# Altium schematic symbol library RDM_ALT_SCH.SchLib: 173 symbols (part 2 of 3)
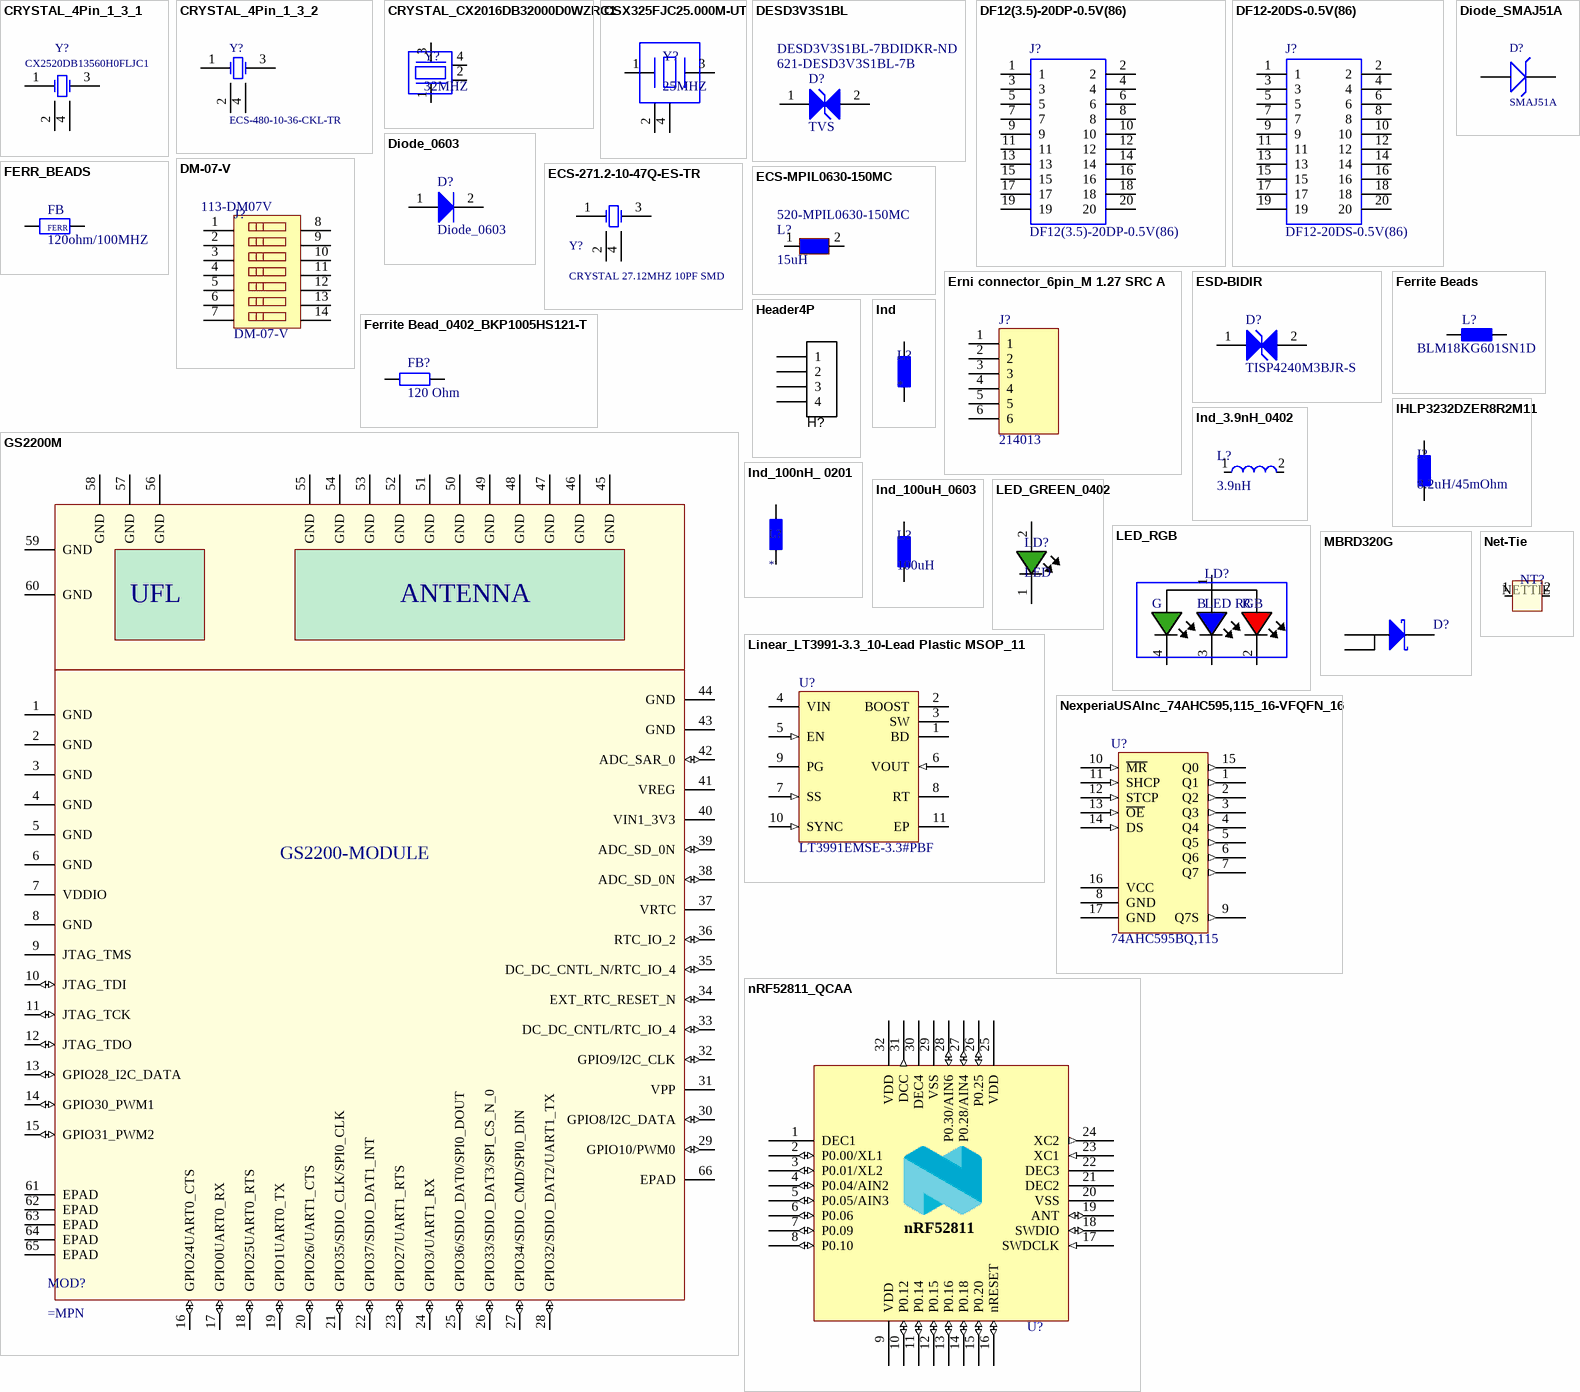
[diagram p6: symbols CRYSTAL_4Pin_1_3_1 to nRF52811_QCAA]

## DF12(3.5)-20DP-0.5V(86)
designator J?
Connector,Board to Board,DF12 Hirose DF12 Series, 0.5mm Pitch 20 Way 2 Row Straight PCB Header, Solder Termination, 0.3A; Allied_Number: R1051072; Manufacturer_Name: Hirose; Manufacturer_Part_Number: DF12(3.5)-20DP-0.5V(86); RS Part Number: 6082064P; RS Price/Stock: http://uk.rs-online.com/web/p/products/6082064P; Allied Price/Stock: http://www.alliedelec.com/hirose-electric-df12-3-5-20dp-0-5v-86-/R1051072/; Mouser Part Number: 798-DF123520DP0.5V86; Mouser Price/Stock: https://www.mouser.com/Search/Refine.aspx?Keyword=798-DF123520DP0.5V86; Datasheet Link: https://www.hirose.com/product/en/download_file/key_name/DF12/category/Catalog/doc_file_id/31693/?file_category_id=4&item_id=23&is_series=1.pdf; Supplier 1: Digi-Key; Supplier 1 Part Number 1: H5230TR-ND
footprint DF12(4.0)-20DP
pins: 1, 2, 3, 4, 5, 6, 7, 8, 9, 10, 11, 12, 13, 14, 15, 16, 17, 18, 19, 20

## DF12-20DS-0.5V(86)
designator J?
Connector,Board to Board,DF12 Hirose DF12 Series 0.5mm 20 Way 2 Row Straight PCB Socket Surface Mount Board to Board; Allied_Number: R1051087; Manufacturer_Name: Hirose; Manufacturer_Part_Number: DF12-20DS-0.5V(86); RS Part Number: 1722478; RS Price/Stock: http://uk.rs-online.com/web/p/products/1722478; Allied Price/Stock: http://www.alliedelec.com/hirose-electric-df12-20ds-0-5v-86-/R1051087/; Mouser Part Number: 798-DF12-20DS-0.5V86; Mouser Price/Stock: https://www.mouser.com/Search/Refine.aspx?Keyword=798-DF12-20DS-0.5V86; Datasheet Link: https://www.hirose.com/product/en/products/DF12; Supplier 1: Digi_Key; Supplier Part Number 1: H5214TR-ND
footprint DF12-20DS
pins: 1, 2, 3, 4, 5, 6, 7, 8, 9, 10, 11, 12, 13, 14, 15, 16, 17, 18, 19, 20

## Diode_0603
designator D?
Diodes - General Purpose, Power, Switching IO=150mA VR=75V HIGH SPEED; Manufacturer: Bourns; Manufacturer PartNr: CD0603-S01575; Replaceable: yes; ComponentLink1Description: mouser; ComponentLink1URL: https://www.mouser.ch/ProductDetail/Diodes-Incorporated/DESD3V3S1BL-7B?qs=%2fha2pyFaduhA707awRoRgtNXj1BWecNQPXz8CtVYm9O48rqwfwJI0g%3d%3d; Footprint/Package: 0603; Supplier 1: Newark; Supplier Part Number 1: 09J8031
footprint Diode 0603
pins: 1 A, 2 K

## Diode_SMAJ51A
designator D?, comment SMAJ51A
SMAJ Transient Voltage Suppressor Diode Series; Manufacturer: Bourns; Manufacturer PartNr: SMAJ51A; ShortDescription: SMAJ51A
footprint LITTELFUSE_DO-214AC(SMA)_R
footprint Bourns_DO-214AC (SMA) small_2_R
pins: 1 K, 2 A

## DM-07-V
designator J?  Supplier Part Number 1: 113-DM07V  (net tie)
DIP Switches/SIP Switches Dip switch SMD type 7 Positions; Replaceable: no; Footprint/Package: 1.27mm; Supplier 1: Mouser; ComponentLink1Description: mouser; ComponentLink1URL: https://www.mouser.ch/ProductDetail/Diptronics/DM-07-V?qs=sGAEpiMZZMv%2f%252b2JhlA6ysNO310kSljHRbctHIUEDhZo%3d
footprint DM-07-V (DIP Switch 7 Position)
pins: 1, 2, 3, 4, 5, 6, 7, 8 1, 9 2, 10 3, 11 4, 12 5, 13 6, 14 7

## ECS-271.2-10-47Q-ES-TR
designator Y?, comment CRYSTAL 27.12MHZ 10PF SMD
Manufacturer Part Number: ECS-271.2-10-47Q-ES-TR
footprint ECS_1247Q SMD (1.6*1.3mm Footprint)
pins: 1 OSC1, 2 OSC2, 3 OSC2, 4 OSC3

## ECS-MPIL0630-150MC
designator L?, comment 15uH  Supplier Part Number 1: 520-MPIL0630-150MC
Fixed Inductors 15uH +/-20% 3A Iron Core Shielded, R=95 mOhms, Height = 3 mm.; Manufacturer: ECS; Manufacturer PartNr: ECS-MPIL0630-150MC; Replaceable: yes; ComponentLink1Description: mouser; ComponentLink1URL: https://www.mouser.ch/ProductDetail/ECS/ECS-MPIL0630-150MC?qs=sGAEpiMZZMsg%252by3WlYCkUy0Se8nYOmwuVn58KWjVF3E%3d; value: 15uH; Footprint/Package: specific, see datasheet; Supplier 1: Mouser; Current: 3A
footprint ECS-MPIL0630-150MC (Fixed Inductors 15uH +/-20% 5A Iron Core Shielded)
pins: 1, 2

## Erni connector_6pin_M 1.27 SRC A
designator J?, comment 214013
M 1.27 SRC A. 6-pin BA1; Manufacturer: ERNI; Manufacturer PartNr: 214013; ShortDescription: 214013
footprint ERNI_214013_6_R
footprint ERNI_214013 Randmontage_6_R
pins: 1, 2, 3, 4, 5, 6

## ESD-BIDIR
designator D?, comment TISP4240M3BJR-S
BIDIRECTIONAL THYRISTOR OVERVOLTAGE PROTECTORS; Manufacturer: Bourns; Manufacturer PartNr: TISP4240M3BJR-S; ShortDescription: TISP4240M3BJR-S
footprint Bourns_SMB (DO-214AA)_2_R
pins: 1 A, 2 K

## FERR_BEADS
designator FB, comment 120ohm/100MHZ
EMI Filter Beads, Chips & Arrays HI CUR LW RDC 0402 120OHMS 25%; Manufacturer: Taiyo Yuden; Manufacturer Part Number: BKP1005HM121-T; Core Material: Ferrite; Impedance: 120R; Max Current Rating: 1.1A; Number of Lines: 1; DC Resistance (DCR): 120mR; Test Frequency: 100MHz; Supplier 1: Digi-Key; Supplier Part Number 1: 587-2089-6-ND; Stock 1: 0; Mount: Surface Mount; Case/Package: 0402; Case Code (Metric): 1005; Case Code (Imperial): 0402; Min Operating Temperature: -55°C; Max Operating Temperature: 85°C; Packaging: Tape and Reel; Tolerance: 25%; Package Quantity: 1; Max DC Current: 1.1A; Termination: SMD/SMT; Self Resonant Frequency: 100MHz; Length: 1mm; Height: 0.5mm; Width: 0.02inch; Depth: 0.5mm; Halogen Free: Halogen Free; ComponentLink1URL: http://www.yuden.co.jp/productdata/catalog/en/mlci08_e.pdf; ComponentLink1Description: http://www.yuden.co.jp/productdata/catalog/en/mlci08_e.pdf; ComponentLink2URL: http://documents.rs-components.com/techlib://itc_doclist_GB.htm?stockno=7555617; ComponentLink2Description: http://documents.rs-components.com/techlib://itc_doclist_GB.htm?stockno=7555617; ComponentLink3URL: http://ds.yuden.co.jp/TYCOMPAS/ut/detail.do?productNo=BKP1005HM121-T&fileName=BKP1005HM121-T_SS&mode=specSheetDownload; ComponentLink3Description: http://ds.yuden.co.jp/TYCOMPAS/ut/detail.do?productNo=BKP1005HM121-T&fileName=BKP1005HM121-T_SS&mode=specSheetDownload
pins: 2, 2
text: FERR

## Ferrite Bead_0402_BKP1005HS121-T
designator FB?, comment 120 Ohm
FERRITE BEAD 120 OHM 0402; Manufacturer: Taiyo Yuden; Manufacturer Part Number: BKP1005HS121-T; Current Rating: 1A; Shielding: Unshielded; Impedance: 120R; Tolerance: 25%; Number of Lines: 1; DC Resistance (DCR): 140mR; Test Frequency: 100MHz; Supplier 1: Mouser; Supplier Part Number 1: 963-BKP1005HS121-T; Stock 1: 346003; Pricing 1: 1=0.1, 10=0.033, 50=0.033, 100=0.021, 1000=0.015, 10000=0.009 (USD); Mount: Surface Mount; Case/Package: 0402; Number of Pins: 2; Core Material: Ferrite; Case Code (Metric): 1005; Case Code (Imperial): 0402; Min Operating Temperature: -55°C; Max Operating Temperature: 85°C; Packaging: Tape and Reel; Package Quantity: 1; Max Current Rating: 1A; Max DC Current: 1A; Termination: SMD/SMT; Length: 0.039inch; Height: 0.5mm; Width: 0.02inch; Depth: 0.5mm; Lead Free: Lead Free; Halogen Free: Halogen Free; REACH SVHC: Unknown; ComponentLink1URL: http://www.farnell.com/datasheets/1929896.pdf; ComponentLink1Description: http://www.farnell.com/datasheets/1929896.pdf; ComponentLink2URL: http://www.onlinecomponents.com/productFiles/mf-TAI/mlci08_e.pdf; ComponentLink2Description: http://www.onlinecomponents.com/productFiles/mf-TAI/mlci08_e.pdf; ComponentLink3URL: http://ds.yuden.co.jp/TYCOMPAS/ut/detail.do?productNo=BKP1005HS121-T&fileName=BKP1005HS121-T_SS&mode=specSheetDownload; ComponentLink3Description: http://ds.yuden.co.jp/TYCOMPAS/ut/detail.do?productNo=BKP1005HS121-T&fileName=BKP1005HS121-T_SS&mode=specSheetDownload
footprint CAPC1005X55N
pins: 1, 2

## Ferrite Beads
designator L?, comment BLM18KG601SN1D
Chip Ferrite Bead; Manufacturer: Murata; Manufacturer PartNr: BLM18KG601SN1D; ShortDescription: BLM18KG601SN1D
footprint CAP-0603[1608] - RFL (SMD Chip 0603 - CAP - RFL)
footprint CAP-0603[1608] (SMD Chip 0603 - CAP)
pins: 1, 2

## GS2200M
designator MOD?
Microccontroller
pins: 1 GND (power), 2 GND (power), 3 GND (power), 4 GND (power), 5 GND (power), 6 GND (power), 7 VDDIO (power), 8 GND (power), 9 JTAG_TMS, 10 JTAG_TDI (io), 11 JTAG_TCK (io), 12 JTAG_TDO (io), 13 GPIO28_I2C_DATA (io), 14 GPIO30_PWM1 (io), 15 GPIO31_PWM2 (io), 16 GPIO24UART0_CTS (io), 17 GPIO0UART0_RX (io), 18 GPIO25UART0_RTS (io), 19 GPIO1UART0_TX (io), 20 GPIO26/UART1_CTS (io), 21 GPIO35/SDIO_CLK/SPI0_CLK (io), 22 GPIO37/SDIO_DAT1_INT (io), 23 GPIO27/UART1_RTS (io), 24 GPIO3/UART1_RX (io), 25 GPIO36/SDIO_DAT0/SPI0_DOUT (io), 26 GPIO33/SDIO_DAT3/SPI_CS_N_0 (io), 27 GPIO34/SDIO_CMD/SPI0_DIN (io), 28 GPIO32/SDIO_DAT2/UART1_TX (io), 29 GPIO10/PWM0 (io), 30 GPIO8/I2C_DATA (io), 31 VPP (power), 32 GPIO9/I2C_CLK (io), 33 DC_DC_CNTL/RTC_IO_4 (io), 34 EXT_RTC_RESET_N (io), 35 DC_DC_CNTL_N/RTC_IO_4 (io), 36 RTC_IO_2 (io), 37 VRTC (power), 38 ADC_SD_0N (io), 39 ADC_SD_0N (io), 40 VIN1_3V3 (power), 41 VREG (power), 42 ADC_SAR_0 (io), 43 GND (power), 44 GND (power), 45 GND (power), 46 GND (power), 47 GND (power), 48 GND (power), 49 GND (power), 50 GND (power), 51 GND (power), 52 GND (power), 53 GND (power), 54 GND (power), 55 GND (power), 56 GND (power), 57 GND (power), 58 GND (power), 59 GND (power), 60 GND (power), 61 EPAD (power), 62 EPAD (power), 63 EPAD (power), 64 EPAD (power), 65 EPAD (power), 66 EPAD (power)
text: UFL; ANTENNA; GS2200-MODULE

## Header4P
designator H?, comment Programmer  (value not drawn)  (no BOM)
Header 4-pin
footprint HDR1X4_1.27MMP (Connector; Header; 4 Position, 0.050" pitch)
footprint HDR1X4_2.54MMP (Connector; Header; 4 Position 0.100" pitch)
footprint CONN_FLATFLEX_4C_1MMP_5MML
footprint CONN_FLATFLEX_4C_1MMP_3MML_TOP
footprint CONN_FLATFLEX_4C_1MMP_3MML_BOT
footprint Sift_2.54_2X2 (Stiftleiste SMD 2.54mm 2X8)
footprint FCI_76383
pins: 1, 2, 3, 4

## IHLP3232DZER8R2M11
designator I?, comment 8.2uH/45mOhm
FIXED IND 8.2UH 5.7A 45 MOHM SMD; Manufacturer: Vishay Dale; Manufacturer Part Number: IHLP3232DZER8R2M11; Core Material: Ferrite; Saturation Current: 6.6A; Tolerance: 20%; Shielding: Shielded; Self Resonant Frequency: 12.6MHz; DC Resistance (DCR): 45mR; Test Frequency: 100kHz; Supplier 1: Digi-Key; Supplier Part Number 1: 541-1356-6-ND; Stock 1: 0; Mount: Surface Mount; Case/Package: 3232; Number of Pins: 2; Min Operating Temperature: -55°C; Max Operating Temperature: 125°C; Package Quantity: 500; Current Rating: 5.7A; Packaging: Tape and Reel; Inductance Tolerance: 20%; Inductance: 8.2uh; Max DC Current: 6.6A; Termination: SMD/SMT; Military Standard: Not; RMS Current (Irms): 5.7A; Length: 0.34inch; Height: 4mm; Width: 0.322inch; Height - Seated (Max): 0.157inch; Depth: 8.94mm; Radiation Hardening: No; REACH SVHC: Unknown; Lead Free: Lead Free; ComponentLink1URL: http://www.vishay.com/docs/34313/ihlp3232dz11.pdf; ComponentLink1Description: http://www.vishay.com/docs/34313/ihlp3232dz11.pdf; ComponentLink2URL: http://www.farnell.com/datasheets/1911055.pdf; ComponentLink2Description: http://www.farnell.com/datasheets/1911055.pdf
pins: 1, 2

## Ind
designator L?
Inductor; value: *; tolerance: *; power: *; Replaceable: *; Manufacturer: *; Manufacturer PartNr: *; Footprint/Package: *
footprint Inductor 0402 EIA
footprint Inductor 0603 EIA
footprint Inductor 0805 EIA
footprint Inductor 1206 EIA
pins: 1, 2

## Ind_3.9nH_0402
designator L?, comment 3.9nH
3.9nH Unshielded Multilayer Inductor 700mA 190mOhm Max 0402 (1005 Metric); Manufacturer: Murata; Manufacturer PartNr: LQG15HN3N9S02D; tolerance: ±0,3 nH; Replaceable: no; value: 3.9nH; power: *; Footprint/Package: 0402 (1005 metric); Supplier 1: Digi-Key; Supplier Part Number 1: 490-1079-1-ND
footprint Inductor high freq 0402 EIA
pins: 1, 2

## Ind_100nH_ 0201
designator L?
Manufacturer: TDK; Manufacturer Part Number: MLG0603PR10JT000; Core Material: Non-Magnetic; Tolerance: 5%; Current Rating: 80mA; Shielding: Unshielded; Inductance: 100nH; DC Resistance (DCR): 4.5R; Self Resonant Frequency: 900MHz; Test Frequency: 300MHz; Supplier 1: Digi-Key; Supplier Part Number 1: 445-7838-2-ND; Stock 1: 735000; Pricing 1: 15000=0.04368, 30000=0.04232, 75000=0.04095, 105000=0.03959 (USD); Mount: Surface Mount; Case/Package: 0201; Case Code (Metric): 0603; Case Code (Imperial): 0201; Min Operating Temperature: -55°C; Max Operating Temperature: 125°C; Package Quantity: 15000; Packaging: Cut Tape; Length: 0.024inch; Width: 0.012inch; Height - Seated (Max): 0.013inch; ComponentLink1URL: https://product.tdk.com/info/en/catalog/datasheets/inductor_commercial_high-frequency_mlg0603p_en.pdf?src-supplier=Digi-Key; ComponentLink1Description: https://product.tdk.com/info/en/catalog/datasheets/inductor_commercial_high-frequency_mlg0603p_en.pdf?src-supplier=Digi-Key
footprint INDC0603X33N (IND_0201)
pins: 1, 2

## Ind_100uH_0603
designator L?, comment 100uH
Festinduktivitäten 100uH 810-GLFR1608T150M-LR; Manufacturer: Murata; Manufacturer PartNr: GLFR1608T101M-LR; tolerance: 20%; Replaceable: yes; current: 80mA; value: 100uH; power: *; Footprint/Package: 0603
footprint Inductor 0603 EIA
pins: 1, 2

## LED_GREEN_0402
designator LD?, comment LED
Green 570nm LED Indication - Discrete 2.1V 0402 (1005 Metric); Manufacturer: Kingbright; Manufacturer PartNr: APHHS1005CGCK; Replaceable: yes; Footprint/Package: 0420 (1005 metric); value: green; Supplier 1: Digi-Key; Supplier Part Number 1: 754-1101-1-ND; Remark: *; Datasheet Link: *
footprint LED_APHHS1005CGCK (LED_CHIP_0402)
pins: 1, 2

## LED_RGB
designator LD?, comment LED RGB
Full Color, Water Clear Lens, -40 to 85 degC, 4-Pin SML 0404 (1010 Metric), RoHS, Tape and Reel; Manufacturer: Lumex Opto; Manufacturer PartNr: SML-LX0404SIUPGUSB; Replaceable: no; Footprint/Package: 0402 (1005 metric); power: *; Supplier 1: Digi-Key; Supplier Part Number 1: 67-2125-1-ND; tolerance: *; value: rgb
footprint LED_RGB_LX0404 (LED RGB CLEAR SMD)
pins: 1, 2, 3, 4
text: G; B; R

## Linear_LT3991-3.3_10-Lead Plastic MSOP_11
designator U?, comment LT3991EMSE-3.3#PBF
55V, 1.2A Step-Down Regulator with 2.8μA Quiescent Current; Manufacturer: Linear; Manufacturer PartNr: LT3991EMSE-3.3#PBF; ShortDescription: LT3991EMSE-3.3#PBF
footprint Linear_10-Lead Plastic MSOP_11_R
pins: 1 BD (power) "This pin connects to the anode of the boost diode. The BD pin is normally connected to the output.", 2 BOOST "This pin is used to provide a drive voltage, higher than the input voltage, to the internal bipolar NPN power switch.", 3 SW (power) "The SW pin is the output of an internal power switch. Connect this pin to the inductor, catch diode, and boost capacitor.", 4 VIN (power) "The VIN pin supplies current to the LT3991’s internal circuitry and to the internal power switch. This pin must be locally bypassed.", 5 EN (in) "The part is in shutdown when this pin is low and active when this pin is high. The hysteretic threshold voltage is 1.005V going up and 0.975V going down. The EN threshold is only accurate when VIN is above 4.3V. If VIN is (See Datasheet)", 6 VOUT (in) "The LT3991- 3.3 and LT3991-5 regulate the VOUT pin to 3.3V and 5V respectively. This pin connects to the internal 10Mohm feedback divider that programs the fixed output voltage.", 7 SS (in) "A capacitor and a series resistor are tied between SS and ground to slowly ramp up the peak current limit of the LT3991 on start-up. The soft-start capacitor is only actively discharged when EN is low. The SS pin is released (See Datasheet)", 8 RT "A resistor is tied between RT and ground to set the switching frequency.", 9 PG (oc) "The PG pin is the open-drain output of an internal comparator. PGOOD remains low until the FB pin is within 9% of the final regulation voltage. PGOOD is valid when the LT3991 is enabled and VIN is above 4.3V", 10 SYNC (in) "This is the external clock synchronization input. Ground this pin for low ripple Burst Mode operation at low output loads. Tie to a clock source for synchronization, which will include pulse-skipping at low output loads. (See Datasheet)", 11 EP (power) "Ground. The exposed pad must be soldered to PCB."

## MBRD320G
designator D?, comment Schottky Diode  (value not drawn)
SCHOTTKY BARRIER RECTIFIERS / 3.0 AMPERES, 20 V; Manufacturer: ON Semiconductor; Manufacturer PartNr: MBRD320G; Replaceable: no; Footprint/Package: DPAK; ComponentLink1Description: mouser; ComponentLink1URL: https://www.mouser.ch/ProductDetail/ON-Semiconductor/MBRD320G?qs=sGAEpiMZZMutXGli8Ay4kLbK7y3VH6Gt26Y1IWCqWOY%3D
footprint TO-252-3_MBRD320G
pins: 1, 3, 4

## Net-Tie
designator NT?  (value not drawn)  (net tie, no BOM)
Net-Tie allowing to short two different types of nets.
footprint NET_TIE (Allows to short two different types of nets)
pins: 1, 2
text: NETTIE

## NexperiaUSAInc_74AHC595,115_16-VFQFN_16
designator U?, comment 74AHC595BQ,115
IC 8BIT SHIFT REGISTER 16HVQFN; Manufacturer: Nexperia USA Inc.; Manufacturer PartNr: 74AHC595BQ,115
footprint NexperiaUSAInc_16-VFQFN_16_R
footprint NexperiaUSAInc_16-VFQFN_16_R
footprint NexperiaUSAInc_16-VFQFN_16_R
pins: 1 Q1 (out), 2 Q2 (out), 3 Q3 (out), 4 Q4 (out), 5 Q5 (out), 6 Q6 (out), 7 Q7 (out), 8 GND, 9 Q7S (out), 10 ~{MR} (in), 11 SHCP (in), 12 STCP (in), 13 ~{OE} (in), 14 DS (in), 15 Q0 (out), 16 VCC (power), 17 GND

## nRF52811_QCAA
designator U?  (value not drawn)
Multi-protocol Bluetooth Low Energy, IEEE 802.15.4, ANT and 2.4GHz proprietary system-on-chip; Manufacturer: Nordic Semiconductor; Manufacturer PartNr: nRF52811-QCAA-R; Value: nRF52811-QCAA; Replaceable: no; LatestRevisionDate: 2019-01-30; Pin Count: 32; Supplier 1: Mouser; Footprint/Package: QFN-32; Supplier Part Number 1: 949-NRF52811-QCAA-R
footprint nRF52811qcaa (Nordic QFN 32)
pins: 1 DEC1 (power), 2 P0.00/XL1 (io), 3 P0.01/XL2 (io), 4 P0.04/AIN2 (io), 5 P0.05/AIN3 (io), 6 P0.06 (io), 7 P0.09 (io), 8 P0.10 (io), 9 VDD (power), 10 P0.12 (io), 11 P0.14 (io), 12 P0.15 (io), 13 P0.16 (io), 14 P0.18 (io), 15 P0.20 (io), 16 nRESET (io), 17 SWDCLK (in), 18 SWDIO (io), 19 ANT (io), 20 VSS (power), 21 DEC2 (power), 22 DEC3 (power), 23 XC1 (in), 24 XC2 (out), 25 VDD (power), 26 P0.25 (io), 27 P0.28/AIN4 (io), 28 P0.30/AIN6 (io), 29 VSS (power), 30 DEC4 (power), 31 DCC (out), 32 VDD (power), 33 (power) hidden to GND
text: nRF52811

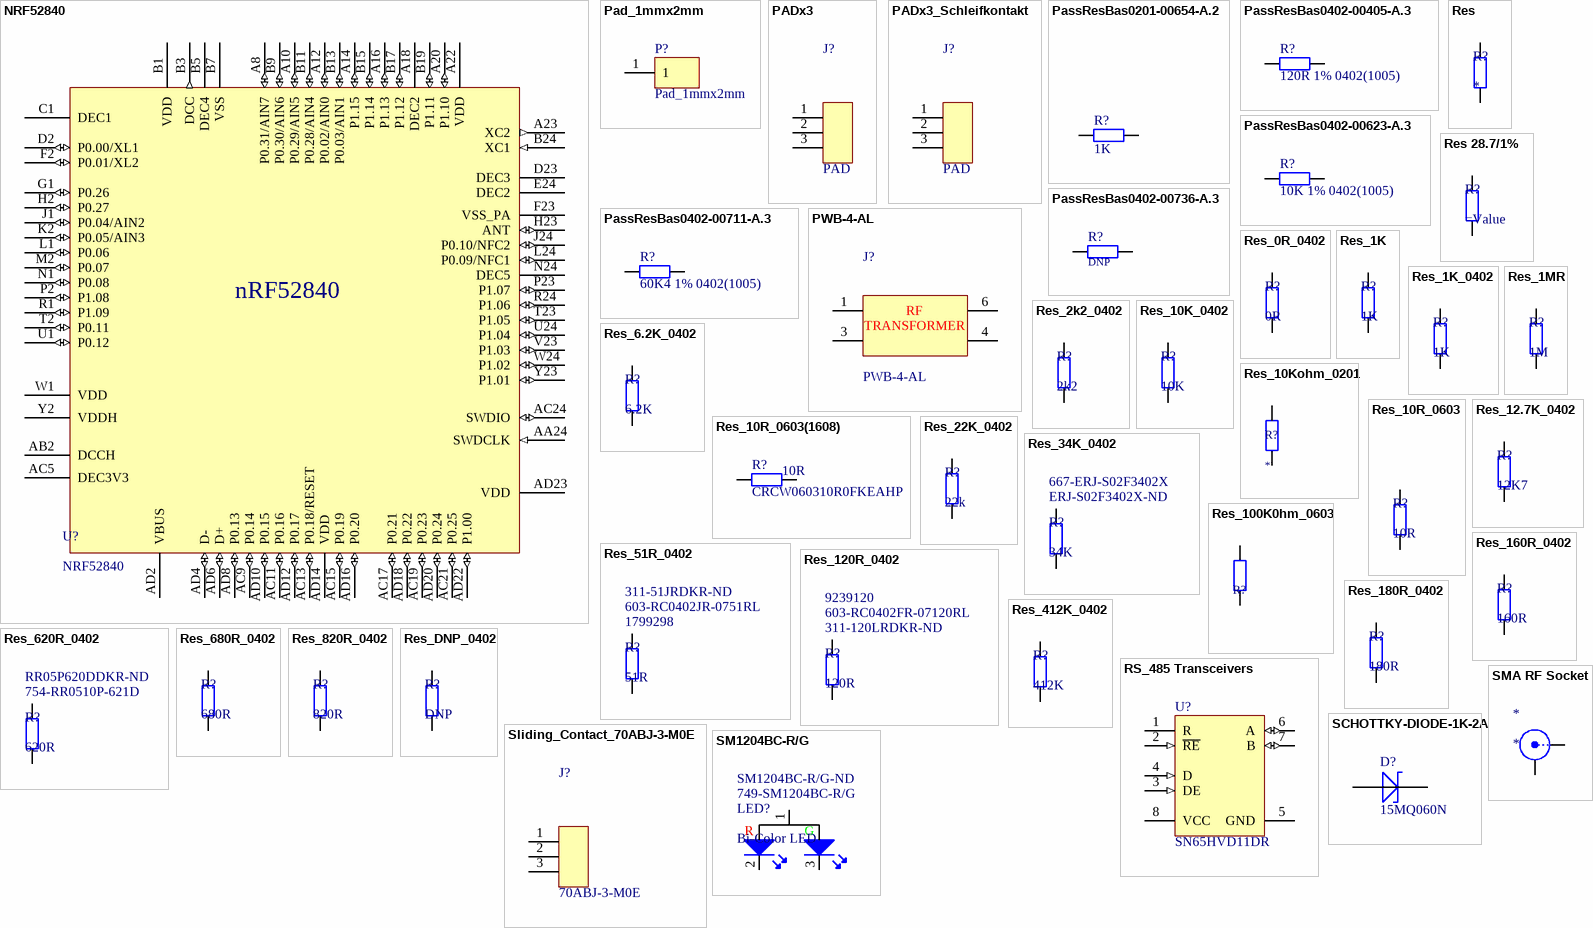
[diagram p3: symbols NRF52840 to SMA RF Socket]

## NRF52840
designator U?
Microcontroller; Manufacturer: Nordic Semiconductor; Manufacturer Part Number: NRF52840-QIAA-R; Supplier 1: Digi-Key; Supplier Part Number 1: 1490-1071-6-ND; Stock 1: 7752; Pricing 1: 1=7.43, 10=6.815, 25=6.1952, 100=5.5755, 250=5.11088, 500=4.64626, 1000=4.18163 (USD)
pins: A8 P0.31/AIN7 (io) "PC0/LPTIM1_IN1,I2C3_SCL,DFSDM_DATIN4,LPUART1_RX,LCD_SEG18,LPTIM2_IN1,EVENTOUT/ADC123_IN1", A10 P0.29/AIN5 (io) "PC0/LPTIM1_IN1,I2C3_SCL,DFSDM_DATIN4,LPUART1_RX,LCD_SEG18,LPTIM2_IN1,EVENTOUT/ADC123_IN1", A12 P0.02/AIN0 (io) "PC0/LPTIM1_IN1,I2C3_SCL,DFSDM_DATIN4,LPUART1_RX,LCD_SEG18,LPTIM2_IN1,EVENTOUT/ADC123_IN1", A14 P1.15 (io) "PC0/LPTIM1_IN1,I2C3_SCL,DFSDM_DATIN4,LPUART1_RX,LCD_SEG18,LPTIM2_IN1,EVENTOUT/ADC123_IN1", A16 P1.13 (io) "PC0/LPTIM1_IN1,I2C3_SCL,DFSDM_DATIN4,LPUART1_RX,LCD_SEG18,LPTIM2_IN1,EVENTOUT/ADC123_IN1", A18 DEC2 (power) "PC0/LPTIM1_IN1,I2C3_SCL,DFSDM_DATIN4,LPUART1_RX,LCD_SEG18,LPTIM2_IN1,EVENTOUT/ADC123_IN1", A20 P1.10 (io) "PC0/LPTIM1_IN1,I2C3_SCL,DFSDM_DATIN4,LPUART1_RX,LCD_SEG18,LPTIM2_IN1,EVENTOUT/ADC123_IN1", A22 VDD (power) "PC0/LPTIM1_IN1,I2C3_SCL,DFSDM_DATIN4,LPUART1_RX,LCD_SEG18,LPTIM2_IN1,EVENTOUT/ADC123_IN1", A23 XC2 (out) "PC0/LPTIM1_IN1,I2C3_SCL,DFSDM_DATIN4,LPUART1_RX,LCD_SEG18,LPTIM2_IN1,EVENTOUT/ADC123_IN1", AA24 SWDCLK (in) "PE1/LCD_SEG37,FMC_NBL1,TIM17_CH1,EVENTOUT", AB2 DCCH (power) "PE0/TIM4_ETR,LCD_SEG36,FMC_NBL0,TIM16_CH1,EVENTOUT", AC5 DEC3V3 (power) "PE1/LCD_SEG37,FMC_NBL1,TIM17_CH1,EVENTOUT", AC9 P0.14 (io) "PC0/LPTIM1_IN1,I2C3_SCL,DFSDM_DATIN4,LPUART1_RX,LCD_SEG18,LPTIM2_IN1,EVENTOUT/ADC123_IN1", AC11 P0.16 (io) "PC0/LPTIM1_IN1,I2C3_SCL,DFSDM_DATIN4,LPUART1_RX,LCD_SEG18,LPTIM2_IN1,EVENTOUT/ADC123_IN1", AC13 P0.18/RESET (io) "PC0/LPTIM1_IN1,I2C3_SCL,DFSDM_DATIN4,LPUART1_RX,LCD_SEG18,LPTIM2_IN1,EVENTOUT/ADC123_IN1", AC15 P0.19 (io) "PC0/LPTIM1_IN1,I2C3_SCL,DFSDM_DATIN4,LPUART1_RX,LCD_SEG18,LPTIM2_IN1,EVENTOUT/ADC123_IN1", AC17 P0.21 (io) "PC0/LPTIM1_IN1,I2C3_SCL,DFSDM_DATIN4,LPUART1_RX,LCD_SEG18,LPTIM2_IN1,EVENTOUT/ADC123_IN1", AC19 P0.23 (io) "PC0/LPTIM1_IN1,I2C3_SCL,DFSDM_DATIN4,LPUART1_RX,LCD_SEG18,LPTIM2_IN1,EVENTOUT/ADC123_IN1", AC21 P0.25 (io) "PC0/LPTIM1_IN1,I2C3_SCL,DFSDM_DATIN4,LPUART1_RX,LCD_SEG18,LPTIM2_IN1,EVENTOUT/ADC123_IN1", AC24 SWDIO (io) "PE0/TIM4_ETR,LCD_SEG36,FMC_NBL0,TIM16_CH1,EVENTOUT", AD2 VBUS (power) "PC0/LPTIM1_IN1,I2C3_SCL,DFSDM_DATIN4,LPUART1_RX,LCD_SEG18,LPTIM2_IN1,EVENTOUT/ADC123_IN1", AD4 D- (io) "PC0/LPTIM1_IN1,I2C3_SCL,DFSDM_DATIN4,LPUART1_RX,LCD_SEG18,LPTIM2_IN1,EVENTOUT/ADC123_IN1", AD6 D+ (io) "PC0/LPTIM1_IN1,I2C3_SCL,DFSDM_DATIN4,LPUART1_RX,LCD_SEG18,LPTIM2_IN1,EVENTOUT/ADC123_IN1", AD8 P0.13 (io) "PC0/LPTIM1_IN1,I2C3_SCL,DFSDM_DATIN4,LPUART1_RX,LCD_SEG18,LPTIM2_IN1,EVENTOUT/ADC123_IN1", AD10 P0.15 (io) "PC0/LPTIM1_IN1,I2C3_SCL,DFSDM_DATIN4,LPUART1_RX,LCD_SEG18,LPTIM2_IN1,EVENTOUT/ADC123_IN1", AD12 P0.17 (io) "PC0/LPTIM1_IN1,I2C3_SCL,DFSDM_DATIN4,LPUART1_RX,LCD_SEG18,LPTIM2_IN1,EVENTOUT/ADC123_IN1", AD14 VDD (power) "PC0/LPTIM1_IN1,I2C3_SCL,DFSDM_DATIN4,LPUART1_RX,LCD_SEG18,LPTIM2_IN1,EVENTOUT/ADC123_IN1", AD16 P0.20 (io) "PC0/LPTIM1_IN1,I2C3_SCL,DFSDM_DATIN4,LPUART1_RX,LCD_SEG18,LPTIM2_IN1,EVENTOUT/ADC123_IN1", AD18 P0.22 (io) "PC0/LPTIM1_IN1,I2C3_SCL,DFSDM_DATIN4,LPUART1_RX,LCD_SEG18,LPTIM2_IN1,EVENTOUT/ADC123_IN1", AD20 P0.24 (io) "PC0/LPTIM1_IN1,I2C3_SCL,DFSDM_DATIN4,LPUART1_RX,LCD_SEG18,LPTIM2_IN1,EVENTOUT/ADC123_IN1", AD22 P1.00 (io) "PC0/LPTIM1_IN1,I2C3_SCL,DFSDM_DATIN4,LPUART1_RX,LCD_SEG18,LPTIM2_IN1,EVENTOUT/ADC123_IN1", AD23 VDD (power) "PE2/TRACECK,TIM3_ETR,TSC_G7_IO1,LCD_SEG38,FMC_A23,SAI1_MCLK_A,EVENTOUT", B1 VDD (power) "PC0/LPTIM1_IN1,I2C3_SCL,DFSDM_DATIN4,LPUART1_RX,LCD_SEG18,LPTIM2_IN1,EVENTOUT/ADC123_IN1", B3 DCC (out) "PC0/LPTIM1_IN1,I2C3_SCL,DFSDM_DATIN4,LPUART1_RX,LCD_SEG18,LPTIM2_IN1,EVENTOUT/ADC123_IN1", B5 DEC4 (power) "PC0/LPTIM1_IN1,I2C3_SCL,DFSDM_DATIN4,LPUART1_RX,LCD_SEG18,LPTIM2_IN1,EVENTOUT/ADC123_IN1", B7 VSS (power) "PC0/LPTIM1_IN1,I2C3_SCL,DFSDM_DATIN4,LPUART1_RX,LCD_SEG18,LPTIM2_IN1,EVENTOUT/ADC123_IN1", B9 P0.30/AIN6 (io) "PC0/LPTIM1_IN1,I2C3_SCL,DFSDM_DATIN4,LPUART1_RX,LCD_SEG18,LPTIM2_IN1,EVENTOUT/ADC123_IN1", B11 P0.28/AIN4 (io) "PC0/LPTIM1_IN1,I2C3_SCL,DFSDM_DATIN4,LPUART1_RX,LCD_SEG18,LPTIM2_IN1,EVENTOUT/ADC123_IN1", B13 P0.03/AIN1 (io) "PC0/LPTIM1_IN1,I2C3_SCL,DFSDM_DATIN4,LPUART1_RX,LCD_SEG18,LPTIM2_IN1,EVENTOUT/ADC123_IN1", B15 P1.14 (io) "PC0/LPTIM1_IN1,I2C3_SCL,DFSDM_DATIN4,LPUART1_RX,LCD_SEG18,LPTIM2_IN1,EVENTOUT/ADC123_IN1", B17 P1.12 (io) "PC0/LPTIM1_IN1,I2C3_SCL,DFSDM_DATIN4,LPUART1_RX,LCD_SEG18,LPTIM2_IN1,EVENTOUT/ADC123_IN1", B19 P1.11 (io) "PC0/LPTIM1_IN1,I2C3_SCL,DFSDM_DATIN4,LPUART1_RX,LCD_SEG18,LPTIM2_IN1,EVENTOUT/ADC123_IN1", B24 XC1 (in) "PC1/LPTIM1_OUT,I2C3_SDA,DFSDM_CKIN4,LPUART1_TX,LCD_SEG19,EVENTOUT/ADC123_IN2", C1 DEC1 (power) "PC0/LPTIM1_IN1,I2C3_SCL,DFSDM_DATIN4,LPUART1_RX,LCD_SEG18,LPTIM2_IN1,EVENTOUT/ADC123_IN1", D2 P0.00/XL1 (io) "PC1/LPTIM1_OUT,I2C3_SDA,DFSDM_CKIN4,LPUART1_TX,LCD_SEG19,EVENTOUT/ADC123_IN2", D23 DEC3 (power) "PC2/LPTIM1_IN2,SPI2_MISO,DFSDM_CKOUT,LCD_SEG20,EVENTOUT/ADC123_IN3", E24 DEC2 (power) "PC3/LPTIM1_ETR,SPI2_MOSI,LCD_VLCD,SAI1_SD_A,LPTIM2_ETR,EVENTOUT/ADC123_IN4", F2 P0.01/XL2 (io) "PC2/LPTIM1_IN2,SPI2_MISO,DFSDM_CKOUT,LCD_SEG20,EVENTOUT/ADC123_IN3", F23 VSS_PA (power) "PC4/USART3_TX,LCD_SEG22,EVENTOUT/COMP1_INM,ADC12_IN13", G1 P0.26 (io) "PC3/LPTIM1_ETR,SPI2_MOSI,LCD_VLCD,SAI1_SD_A,LPTIM2_ETR,EVENTOUT/ADC123_IN4", H2 P0.27 (io) "PC4/USART3_TX,LCD_SEG22,EVENTOUT/COMP1_INM,ADC12_IN13", H23 ANT (io) "PC5/USART3_RX,LCD_SEG23,EVENTOUT/COMP1_INP,ADC12_IN14,WKUP5", J1 P0.04/AIN2 (io) "PC5/USART3_RX,LCD_SEG23,EVENTOUT/COMP1_INP,ADC12_IN14,WKUP5", J24 P0.10/NFC2 (io) "PC6/TIM3_CH1,TIM8_CH1,DFSDM_CKIN3,TSC_G4_IO1,LCD_SEG24,SDMMC1_D6,SAI2_MCLK_A,EVENTOUT", K2 P0.05/AIN3 (io) "PC6/TIM3_CH1,TIM8_CH1,DFSDM_CKIN3,TSC_G4_IO1,LCD_SEG24,SDMMC1_D6,SAI2_MCLK_A,EVENTOUT", L1 P0.06 (io) "PC7/TIM3_CH2,TIM8_CH2,DFSDM_DATIN3,TSC_G4_IO2,LCD_SEG25,SDMMC1_D7,SAI2_MCLK_B,EVENTOUT", L24 P0.09/NFC1 (io) "PC7/TIM3_CH2,TIM8_CH2,DFSDM_DATIN3,TSC_G4_IO2,LCD_SEG25,SDMMC1_D7,SAI2_MCLK_B,EVENTOUT", M2 P0.07 (io) "PC8/TIM3_CH3,TIM8_CH3,TSC_G4_IO3,LCD_SEG26,SDMMC1_D0,EVENTOUT", N1 P0.08 (io) "PC9/TIM8_BKIN2,TIM3_CH4,TIM8_CH4,TSC_G4_IO4,OTG_FS_NOE,LCD_SEG27,SDMMC1_D1,SAI2_EXTCLK,TIM8_BKIN2_COMP1,EVENTOUT", N24 DEC5 (power) "PC8/TIM3_CH3,TIM8_CH3,TSC_G4_IO3,LCD_SEG26,SDMMC1_D0,EVENTOUT", P2 P1.08 (io) "PC10/SPI3_SCK,USART3_TX,UART4_TX,TSC_G3_IO2,LCD_COM4/LCD_SEG28/LCD_SEG40,SDMMC1_D2,SAI2_SCK_B,EVENTOUT", P23 P1.07 (io) "PC9/TIM8_BKIN2,TIM3_CH4,TIM8_CH4,TSC_G4_IO4,OTG_FS_NOE,LCD_SEG27,SDMMC1_D1,SAI2_EXTCLK,TIM8_BKIN2_COMP1,EVENTOUT", R1 P1.09 (io) "PC11/SPI3_MISO,USART3_RX,UART4_RX,TSC_G3_IO3,LCD_COM5/LCD_SEG29/LCD_SEG41,SDMMC1_D3,SAI2_MCLK_B,EVENTOUT", R24 P1.06 (io) "PC10/SPI3_SCK,USART3_TX,UART4_TX,TSC_G3_IO2,LCD_COM4/LCD_SEG28/LCD_SEG40,SDMMC1_D2,SAI2_SCK_B,EVENTOUT", T2 P0.11 (io) "PC12/SPI3_MOSI,USART3_CK,UART5_TX,TSC_G3_IO4,LCD_COM6/LCD_SEG30/LCD_SEG42,SDMMC1_CK,SAI2_SD_B,EVENTOUT", T23 P1.05 (io) "PC11/SPI3_MISO,USART3_RX,UART4_RX,TSC_G3_IO3,LCD_COM5/LCD_SEG29/LCD_SEG41,SDMMC1_D3,SAI2_MCLK_B,EVENTOUT", U1 P0.12 (io) "PC13/EVENTOUT/RTC_TAMP1/RTC_TS/RTC_OUT/WKUP2", U24 P1.04 (io) "PC12/SPI3_MOSI,USART3_CK,UART5_TX,TSC_G3_IO4,LCD_COM6/LCD_SEG30/LCD_SEG42,SDMMC1_CK,SAI2_SD_B,EVENTOUT", V23 P1.03 (io) "PC13/EVENTOUT/RTC_TAMP1/RTC_TS/RTC_OUT/WKUP2", W1 VDD (power) "PC14-OSC32_IN(PC14)/EVENTOUT/OSC32_IN", W24 P1.02 (io) "PC14-OSC32_IN(PC14)/EVENTOUT/OSC32_IN", Y2 VDDH (power) "PC15-OSC32_OUT(PC15)/EVENTOUT/OSC32_OUT", Y23 P1.01 (io) "PC15-OSC32_OUT(PC15)/EVENTOUT/OSC32_OUT"
text: nRF52840

## Pad_1mmx2mm
designator P?
Manufacturer: Pad_1mmx2mm; Manufacturer PartNr: Pad_1mmx2mm
footprint Pad_1mmx2mm
pins: 1

## PADx3
designator J?, comment PAD  (net tie)
-; Replaceable: no; Footprint/Package: 2.54mm
footprint PADx3 (3 PADS)
pins: 1, 2, 3

## PADx3_Schleifkontakt
designator J?, comment PAD  (net tie)
-; Replaceable: no; Footprint/Package: 2.54mm
footprint PADx3_Schleifkontakt (3 PADS)
pins: 1, 2, 3

## PassResBas0201-00654-A.2
designator R?, comment value 1K  (hidden comment: RC0402FR-071KL)
RES SMD 1K OHM 1% 1/16W 0402; Manufacturer: Yageo; #ClassSub: Resistor SMD; #Class: Passiv-Components; Status: nLager; Manufacturer PartNr: RC0402FR-071KL
footprint RES-0201[0603] - RFL (SMD Chip 0201 - RES - RFL)
footprint RESC1005X40N
pins: 1, 2

## PassResBas0402-00405-A.3
designator R?, comment 120R 1% 0402(1005)
120R 0.063W 1% 0402 (1005 Metric)  SMD; ValueAddON: 1% 0.063W; #ClassSub: Resistor SMD; #Class: Passiv-Components; Value: 120R; Status: nLager
footprint RES-0402[1005] - RFL (SMD Chip 0402 - RES - RFL)
footprint RES-0402[1005] (SMD Chip 0402 - RES)
pins: 1, 2

## PassResBas0402-00623-A.3
designator R?, comment 10K 1% 0402(1005)
10K 0.063W 1% 0402 (1005 Metric)  SMD; ValueAddON: 1% 0.063W; #ClassSub: Resistor SMD; #Class: Passiv-Components; Value: 10K; Status: nLager
footprint RES-0402[1005] - RFL (SMD Chip 0402 - RES - RFL)
footprint RES-0402[1005] (SMD Chip 0402 - RES)
pins: 1, 2

## PassResBas0402-00711-A.3
designator R?, comment 60K4 1% 0402(1005)
60K4 0.063W 1% 0402 (1005 Metric)  SMD; ValueAddON: 1% 0.063W; #ClassSub: Resistor SMD; #Class: Passiv-Components; Value: 60K4; Status: nLager
footprint RES-0402[1005] - RFL (SMD Chip 0402 - RES - RFL)
footprint RES-0402[1005] (SMD Chip 0402 - RES)
pins: 1, 2

## PassResBas0402-00736-A.3
designator R?, comment DNP
100K 0.063W 1% 0402 (1005 Metric)  SMD; ValueAddON: 1% 0.063W; #ClassSub: Resistor SMD; #Class: Passiv-Components; Status: nLager; Value: DNP
footprint RES-0402[1005] - RFL (SMD Chip 0402 - RES - RFL)
footprint RES-0402[1005] (SMD Chip 0402 - RES)
pins: 1, 2

## PWB-4-AL
designator J?  (net tie)
Audio Transformers / Signal Transformers PWB Wideband RF 1:4 0.150-500 MHz; Manufacturer: Coilcraft; Manufacturer PartNr: PWB-4-ALB; Replaceable: no; Footprint/Package: according datasheet; Supplier 1: Farnell; Supplier 2: Mouser; Supplier Part Number 1: 2458061RL; Supplier Part Number 2: 994-PWB-4-ALB; ComponentLink1Description: mouser; ComponentLink1URL: https://www.mouser.ch/ProductDetail/Coilcraft/PWB-4-ALB?qs=sGAEpiMZZMv0IfuNuy2LUfGhYNbYTVsTGXcIGr0r728%3d
footprint PWB-4-AL (Surface Mount Wideband RF Transformer)
pins: 1, 3, 4, 6
text: RF; TRANSFORMER

## Res
designator R?
Resistor; value: *; tolerance: *; power: *; Replaceable: *; Manufacturer: *; Manufacturer PartNr: *; Footprint/Package: *
footprint Resistor 1206 EIA
footprint Resistor 0805 EIA
footprint Resistor 0603 EIA
footprint Resistor 0402 EIA
pins: 1, 2

## Res 28.7/1%
designator R?
Res Thick Film 0402 28.7K Ohm 1% 0.1W(1/10W) ±100ppm/C Molded SMD Automotive Punched T/R; Manufacturer: Panasonic; Manufacturer Part Number: ERJ-2RKF2872X; Resistance: 28.7kR; Power Rating: 100mW; Voltage Rating: 50V; Temperature Coefficient: 100ppm/°C; Supplier 1: Digi-Key; Supplier Part Number 1: P28.7KLDKR-ND; Stock 1: 191647; Pricing 1: 1=0.1, 10=0.045, 100=0.0184, 1000=0.00826, 2500=0.00717, 5000=0.00593 (USD); Mount: Surface Mount; Case/Package: 0402; Case Code (Metric): 1005; Case Code (Imperial): 0402; Contact Plating: Tin; Min Operating Temperature: -55°C; Max Operating Temperature: 155°C; Tolerance: 1%; Packaging: Tape and Reel; Package Quantity: 10000; Composition: Thick Film; Number of Terminations: 2; Termination: SMD/SMT; Military Standard: Not; Max Power Dissipation: 100mW; Voltage Rating (DC): 50V; Length: 1mm; Height: 0.016inch; Width: 0.02inch; Depth: 0.5mm; REACH SVHC: Yes; Lead Free: Lead Free; ComponentLink1URL: http://www.alliedelec.com/m/d/623f45ff1957d936ff56d46fd1c28cac.pdf; ComponentLink1Description: http://www.alliedelec.com/m/d/623f45ff1957d936ff56d46fd1c28cac.pdf; ComponentLink2URL: http://www.farnell.com/datasheets/1694929.pdf; ComponentLink2Description: http://www.farnell.com/datasheets/1694929.pdf; ComponentLink3URL: http://www.mouser.com/ds/2/315/AOA0000CE2-37512.pdf; ComponentLink3Description: http://www.mouser.com/ds/2/315/AOA0000CE2-37512.pdf; ComponentLink4URL: http://www.farnell.com/datasheets/1678782.pdf; ComponentLink4Description: http://www.farnell.com/datasheets/1678782.pdf; ComponentLink5URL: http://industrial.panasonic.com/www-data/pdf/AOA0000/AOA0000CE2.pdf; ComponentLink5Description: http://industrial.panasonic.com/www-data/pdf/AOA0000/AOA0000CE2.pdf
pins: 1, 2

## Res_0R_0402
designator R?, comment 0R
0 Ohms Resistor 0402; Manufacturer: Panasonic Electronic Components; Manufacturer PartNr: ERJ-2GE0R00X; power: 100mW; Replaceable: yes; value: 0R; tolerance: -; Footprint/Package: 0402 (1005 metric); Supplier 1: Digi-Key; Supplier Part Number 1: P0.0JCT-ND
footprint Resistor 0402 EIA
pins: 1, 2

## Res_1K
designator R?, comment 1K
1 kOhms ±0.5% 0.063W, 1/16W Chip Resistor 0402 (1005 Metric) Thin Film; Manufacturer: Susumu; Manufacturer PartNr: RR0510P-102-D; Replaceable: yes; value: 1K; tolerance: ±0.5%; power: 1/16W; Footprint/Package: 0402 (1005 metric); Supplier 1: Digi-Key; Supplier Part Number 1: RR05P1.0KDCT-ND
footprint Resistor 0402 EIA
pins: 1, 2

## Res_1K_0402
designator R?, comment 1K
RES SMD 1K OHM 1% 1/16W 0402; Manufacturer: Yageo; Manufacturer PartNr: RC0402FR-071KL; power: 0,063W, 1/16W; Replaceable: yes; value: 1K; tolerance: ±1%; Footprint/Package: 0402 (1005 metric); Supplier 1: Digi-Key; Supplier Part Number 1: 311-1.00KLRCT-ND
footprint Resistor 0402 EIA
pins: 1, 2

## Res_1MR
designator R?, comment 1M
PANASONIC ELECTRONIC COMPONENTS   ERA6AEB105V   Surface Mount Chip Resistor, Thin Film, AEC-Q200 ERA Series, 1 Mohm, 125 mW,  0.1%, 100 V; Manufacturer Part Number: ERA-6AEB105V; Voltage Rating: 100V; Resistance: 1MR; Power Rating: 125mW; Tolerance: 1%; Temperature Coefficient: 25ppm/°C; Supplier 1: Digi-Key; Supplier Part Number 1: P1MDATR-ND; Manufacturer: Panasonic; Stock 1: 145000; Pricing 1: 5000=0.03749, 10000=0.03499, 25000=0.03451 (USD); Mount: Surface Mount; Case/Package: 0805; Number of Pins: 2; Case Code (Imperial): 0805; Case Code (Metric): 2012; Contact Plating: Tin; Min Operating Temperature: -55°C; Max Operating Temperature: 155°C; Packaging: Tape and Reel; Package Quantity: 1; Composition: Thin Film; Number of Terminations: 2; Military Standard: Not; Termination: Solder; Max Power Dissipation: 125mW; Voltage Rating (DC): 100V; Working Voltage: 100V; Features: Automotive AEC-Q200; Length: 2mm; Height: 0.5mm; Width: 1.25mm; Depth: 1.25mm; Radiation Hardening: No; REACH SVHC: No SVHC; Lead Free: Lead Free; ComponentLink1URL: http://uk.rs-online.com/webdocs/0bee/0900766b80beefcc.pdf; ComponentLink1Description: http://uk.rs-online.com/webdocs/0bee/0900766b80beefcc.pdf; ComponentLink2URL: http://www.farnell.com/datasheets/485442.pdf; ComponentLink2Description: http://www.farnell.com/datasheets/485442.pdf; ComponentLink3URL: https://industrial.panasonic.com/cdbs/www-data/pdf/RDM0000/AOA0000C307.pdf; ComponentLink3Description: https://industrial.panasonic.com/cdbs/www-data/pdf/RDM0000/AOA0000C307.pdf; ComponentLink4URL: http://www.farnell.com/datasheets/2052875.pdf; ComponentLink4Description: http://www.farnell.com/datasheets/2052875.pdf; ComponentLink5URL: http://industrial.panasonic.com/www-data/pdf/AOA0000/AOA0000CE26.pdf; ComponentLink5Description: http://industrial.panasonic.com/www-data/pdf/AOA0000/AOA0000CE26.pdf; ComponentLink6URL: http://www.alliedelec.com/m/d/b6b0537e86f421aa7f5975bb1d8f429a.pdf; ComponentLink6Description: http://www.alliedelec.com/m/d/b6b0537e86f421aa7f5975bb1d8f429a.pdf; ComponentLink7URL: http://www.produktinfo.conrad.com/datenblaetter/450000-474999/458432-da-01-en-WIDERSTAND_0805_ERA.pdf; ComponentLink7Description: http://www.produktinfo.conrad.com/datenblaetter/450000-474999/458432-da-01-en-WIDERSTAND_0805_ERA.pdf
pins: 1, 2

## Res_2k2_0402
designator R?, comment 2k2
2.2K OHM 5% 1/16W 0402 (1005 metric) Thik Film; Manufacturer: Yageo; Manufacturer PartNr: ERA-2AEB222X; tolerance: ±0.1%; Replaceable: yes; value: 2k2; power: 1/16W; Footprint/Package: 0402 (1005 metric); Supplier 1: Digi-Key; Supplier Part Number 1: P2.2KDCCT-ND
footprint Resistor 0402 EIA
pins: 1, 2

## Res_6.2K_0402
designator R?, comment 6.2K
SMD 6.2K OHM 5% 1/32W 01005 (0402 metrisch); Manufacturer: Yageo; Manufacturer PartNr: RC0100JR-076K2L; power: 30mW; Replaceable: yes; value: 6.2K; tolerance: 5%; ComponentLink1Description: mouser; ComponentLink1URL: https://www.mouser.ch/ProductDetail/Panasonic/ERJ-U02F1272X?qs=%2fha2pyFaduhgKgPBJ740pAaHj6cp9pylmg%252bQEADUfgyeSrh3sAf%2fUfkIS9lAH%252bGtn6lc%2fnTP02L%252baHn1ibPfBw%3d%3d; Footprint/Package: 0402 (1005 metric); Supplier Part Number 1: YAG6498CT-ND; Supplier 1: Digi-Key
footprint Resistor 0402 EIA
pins: 1, 2

## Res_10K_0402
designator R?, comment 10K
SMD 10K ohm 1% 50V General Purpose; Manufacturer: Yageo; Manufacturer PartNr: RC0402FR-1010KL; power: 63mW; Replaceable: yes; value: 10K; tolerance: 1%; ComponentLink1Description: mouser; ComponentLink1URL: https://www.mouser.ch/ProductDetail/Yageo/RC0402FR-1010KL?qs=sGAEpiMZZMtlubZbdhIBIEgN9MQql2m6Sb2LnYlCICU%3d; Footprint/Package: 0402; Supplier 1: Mouser; Supplier Part Number 1: 603-RC0402FR-1010KL
footprint Resistor 0402 EIA
pins: 1, 2

## Res_10Kohm_0201
designator R?
Manufacturer: Stackpole Electronics; Manufacturer Part Number: RMCF0201FT10K0; Resistance: 10kR; Tolerance: 1%; Power Rating: 50mW; Temperature Coefficient: 200ppm/°C; Supplier 1: Digi-Key; Supplier Part Number 1: RMCF0201FT10K0-ND; Stock 1: 0; Mount: Surface Mount; Case/Package: 0201; Case Code (Metric): 0603; Case Code (Imperial): 0201; Contact Plating: Matte,Tin; Min Operating Temperature: -55°C; Max Operating Temperature: 125°C; Packaging: Tape and Reel; Composition: Thick Film; Number of Terminations: 2; Max Power Dissipation: 50mW; Length: 0.024inch; Height: 0.009inch; Width: 0.012inch
footprint RES-0201[0603] - RFL
pins: 1, 2

## Res_10R_0603
designator R?, comment 10R
SMD 1/4watt 10ohms 1%; Manufacturer: Vishay; Manufacturer PartNr: CRCW060310R0FKEAHP; power: 250mW; Replaceable: yes; value: 10R; tolerance: 1%; Footprint/Package: 0603
footprint Resistor 0603 EIA
pins: 1, 2

## Res_10R_0603(1608)
designator R?, comment CRCW060310R0FKEAHP  ShortDescription: 10R
SMD 10ohm 1%; Manufacturer: Vishay; Manufacturer PartNr: CRCW060310R0FKEAHP
footprint RES-0603[1608] - RFL (SMD Chip 0603 - RES - RFL)
footprint RES-0603[1608] (SMD Chip 0603 - RES)
pins: 1, 2

## Res_12.7K_0402
designator R?, comment 12K7
SMD 0402 1% 12.7Kohm; Manufacturer: Panasonic; Manufacturer PartNr: ERJ-U02F1272X; value: 12.7K; power: 100mW; Replaceable: yes; tolerance: 1%; ComponentLink1Description: mouser; ComponentLink1URL: https://www.mouser.ch/ProductDetail/Panasonic/ERJ-U02F1272X?qs=%2fha2pyFaduhgKgPBJ740pAaHj6cp9pylmg%252bQEADUfgyeSrh3sAf%2fUfkIS9lAH%252bGtn6lc%2fnTP02L%252baHn1ibPfBw%3d%3d; Footprint/Package: 0402; Supplier 1: Mouser; Supplier Part Number 1: 667-ERJ-U02F1272X
footprint Resistor 0402 EIA
pins: 1, 2

## Res_22K_0402
designator R?, comment 22k
22 kOhms ±5%  0402 (1005 metrisch) Thick Film; Manufacturer: Yageo; Manufacturer PartNr: RC0402JR-0722KL; power: 0.063W, 1/16W; Replaceable: yes; value: 22 k; tolerance: 5%; Footprint/Package: 0402 (1005 metric); Supplier 1: Digi-Key; Supplier Part Number 1: 311-22KJRCT-ND
footprint Resistor 0402 EIA
pins: 1, 2

## Res_34K_0402
designator R?, comment 34K  Supplier Part Number 1: ERJ-S02F3402X-ND  Supplier Part Number 2: 667-ERJ-S02F3402X
SMD 0402 34Kohms 1%; Manufacturer: Panasonic; Manufacturer PartNr: ERJ-S02F3402X; power: 100mW; Replaceable: yes; value: 34K; tolerance: 1%; ComponentLink1Description: mouser; ComponentLink1URL: https://www.mouser.ch/ProductDetail/Panasonic/ERJ-S02F3402X?qs=sGAEpiMZZMtlubZbdhIBINuoixIUl6fxKD%252btaKOXBLI%3d; Footprint/Package: 0402; Supplier 1: Digi-Key; Supplier 2: Mouser
footprint Resistor 0402 EIA
pins: 1, 2

## Res_51R_0402
designator R?, comment 51R  Supplier Part Number 1: 1799298  Supplier Part Number 2: 603-RC0402JR-0751RL  Supplier Part Number 3: 311-51JRDKR-ND
Resistor; Manufacturer: Yageo; Manufacturer PartNr: RC0402JR-0751RL; tolerance: 5%; power: 62.5mW; Replaceable: yes; value: 51R; Footprint/Package: 0402; ComponentLink1Description: mouser; ComponentLink1URL: https://www.mouser.ch/ProductDetail/Yageo/RC0402JR-0751RL?qs=sGAEpiMZZMtG0KNrPCHnjTtiZEI2zSDg2UFCMmEjZXQ%3d; Supplier 1: Farnell; Supplier 2: Mouser; Supplier 3: Digi-Key
footprint Resistor 0402 EIA
pins: 1, 2

## Res_100K0hm_0603
designator R?
100 kOhms ±1% 0.05W, 1/20W Chip Resistor 0201 (0603 Metric) Moisture Resistant Thick Film; Supplier 1: Digi-Key; Supplier Part Number 1: 311-100KMCT-ND
footprint RES-0201[0603] - RFL
pins: 1, 2

## Res_120R_0402
designator R?, comment 120R  Supplier Part Number 1: 311-120LRDKR-ND  Supplier Part Number 2: 603-RC0402FR-07120RL  Supplier Part Number 3: 9239120
SMD 0402 120 OHM 1%; Manufacturer: Yageo; Manufacturer PartNr: RC0402FR-07120RL; power: 62.5mW; Replaceable: yes; value: 120R; tolerance: 1%; Footprint/Package: 0402; ComponentLink1Description: mouser; ComponentLink1URL: https://www.mouser.ch/ProductDetail/Yageo/RC0402FR-07120RL?qs=sGAEpiMZZMtG0KNrPCHnjZp3fE5AS1HJJJHwzxSjurg%3d; Supplier 1: Digi-Key; Supplier 2: Mouser; Supplier 3: Farnell
footprint Resistor 0402 EIA
pins: 1, 2

## Res_160R_0402
designator R?, comment 160R
SMD 0402 160 OHM 1%; Manufacturer: Yageo; Manufacturer PartNr: RC0402FR-07160RL; power: 62.5mW; Replaceable: yes; value: 160R; tolerance: 1%; Footprint/Package: 0402; ComponentLink1Description: digikey; ComponentLink1URL: https://www.digikey.com/product-detail/en/yageo/RC0402FR-07160RL/311-160LRDKR-ND/732440; Supplier 1: Mouser; Supplier Part Number 1: 603-RC0402FR-07160RL
footprint Resistor 0402 EIA
pins: 1, 2

## Res_180R_0402
designator R?, comment 180R
SMD 0402 180 OHM 1%; Manufacturer PartNr: RN73H1ETTP1800B50; power: 62.5mW; Replaceable: yes; value: 180R; tolerance: 1%; Footprint/Package: 0402
footprint Resistor 0402 EIA
pins: 1, 2

## Res_412K_0402
designator R?, comment 412K
SMD 0402 Thick Film Resistors - SMD 412K OHM 1%; Manufacturer: Yageo; Manufacturer PartNr: RC0402FR-07412KL; power: 62.5mW; Replaceable: yes; value: 412K; tolerance: 1%; Footprint/Package: 0402; Supplier 1: Mouser; ComponentLink1Description: mouser; ComponentLink1URL: https://www.mouser.ch/ProductDetail/Yageo/RC0402FR-07412KL?qs=sGAEpiMZZMu61qfTUdNhG6gKAQVNBKOozNOFQJr2tME%3d
footprint Resistor 0402 EIA
pins: 1, 2

## Res_620R_0402
designator R?, comment 620R  Supplier Part Number 1: 754-RR0510P-621D  Supplier Part Number 2: RR05P620DDKR-ND
SMD 1/16W 620ohm 0.5%; Manufacturer: Susumu; Manufacturer PartNr: RR0510P-621-D; power: 62.5mW; Replaceable: yes; value: 620R; tolerance: 0.5%; Footprint/Package: 0402; ComponentLink1Description: mouser; ComponentLink1URL: https://www.mouser.ch/ProductDetail/Susumu/RR0510P-621-D?qs=sGAEpiMZZMu61qfTUdNhG%2fDhcyQpRg8MIBVoO7KVzPo%3d; Supplier 1: Mouser; Supplier 2: Digi-Key
footprint Resistor 0402 EIA
pins: 1, 2

## Res_680R_0402
designator R?, comment 680R
SMD 1/16W 680ohm 0.5%; Manufacturer: Susumu; Manufacturer PartNr: RR0510P-681-D; power: 62.5mW; Replaceable: yes; value: 680R; tolerance: 0.5%; Footprint/Package: 0402 (1005 metric); ComponentLink1Description: mouser; ComponentLink1URL: https://www.mouser.ch/ProductDetail/Susumu/RR0510P-681-D?qs=sGAEpiMZZMu61qfTUdNhG%2fDhcyQpRg8M7o1O4N4ATeA%3d; Supplier 1: Digi-Key; Supplier 2: Mouser; Supplier Part Number 2: 754-RR0510P-681D; Supplier Part Number 1: RR05P680DDKR-ND
footprint Resistor 0402 EIA
pins: 1, 2

## Res_820R_0402
designator R?, comment 820R
820 Ohms ±1% 0.1W, 1/10W 0402 Thick Film; Manufacturer: Panasonic Electronic Components; Manufacturer PartNr: ERJ-2RKF8200X; Replaceable: yes; value: 820R; tolerance: 1%; power: 0.1W, 1/10W; Footprint/Package: 0402 (1005 metric); Supplier 1: Digi-Key; Supplier Part Number 1: P820LCT-ND
footprint Resistor 0402 EIA
pins: 1, 2

## Res_DNP_0402
designator R?, comment DNP
Resistor: do not populate; Replaceable: no; value: DNP; tolerance: *; power: *; Manufacturer: do not populate; Footprint/Package: 0402; Manufacturer PartNr: do not populate
footprint Resistor 0402 EIA
pins: 1, 2

## RS_485 Transceivers
designator U?, comment SN65HVD11DR
SNx5HVD1x 3.3-V RS-485 Transceivers; Manufacturer: TI; Manufacturer PartNr: SN65HVD11DR; ShortDescription: SN65HVD11DR
footprint TI_D (R-PDSO-G8)_8_R
pins: 1 R (hiz), 2 ~{RE} (in), 3 DE (in), 4 D (in), 5 GND (power), 6 A (io), 7 B (io), 8 VCC (power)

## SCHOTTKY-DIODE-1K-2A
designator D?, comment 15MQ060N
15MQ060N SCHOTTKY RECTIFIER; Manufacturer: SMC; Manufacturer PartNr: 15MQ060N; ShortDescription: 15MQ060N
footprint SMC_SMA_2_R
pins: 1 K, 2 A

## Sliding_Contact_70ABJ-3-M0E
designator J?, comment 70ABJ-3-M0E  (net tie)
3 Position Spring Compression Contact, Male Connector Surface Mount; Replaceable: no; Footprint/Package: 1.27mm; ComponentLink1Description: digikey; ComponentLink1URL: https://www.digikey.com/product-detail/en/bourns-inc/70ABJ-3-M0E/70ABJ-3-M0ETR-ND/2037593
footprint 70ABJ-3-M0E (3 Position Spring Compression Contact, Male Connector Surface Mount)
pins: 1, 2, 3

## SM1204BC-R/G
designator LED?, comment Bi-Color LED  Supplier Part Number 1: 749-SM1204BC-R/G  Supplier Part Number 2: SM1204BC-R/G-ND
surface mount led red/green; Manufacturer: Bivar; Manufacturer PartNr: SM1204BC-R/G; Replaceable: no; ComponentLink1Description: mouser; ComponentLink1URL: https://www.mouser.ch/ProductDetail/Bivar/SM1204BC-R-G?qs=%2fha2pyFadui4qQS2vEE7ZgAQ86kCJBvBr%2f7ddAy39LDK6FB8gQMnbg%3d%3d; Footprint/Package: specific, see datasheet; Supplier 1: Mouser; Supplier 2: Digi-Key
footprint SM1204BC-R/G_1204
pins: 1, 2, 3
text: R; G

## SMA RF Socket
designator *
SMA Straight PCB SMD Connector for RF
footprint CONSMA001-SMD-G
pins: 1 X, 2 Y

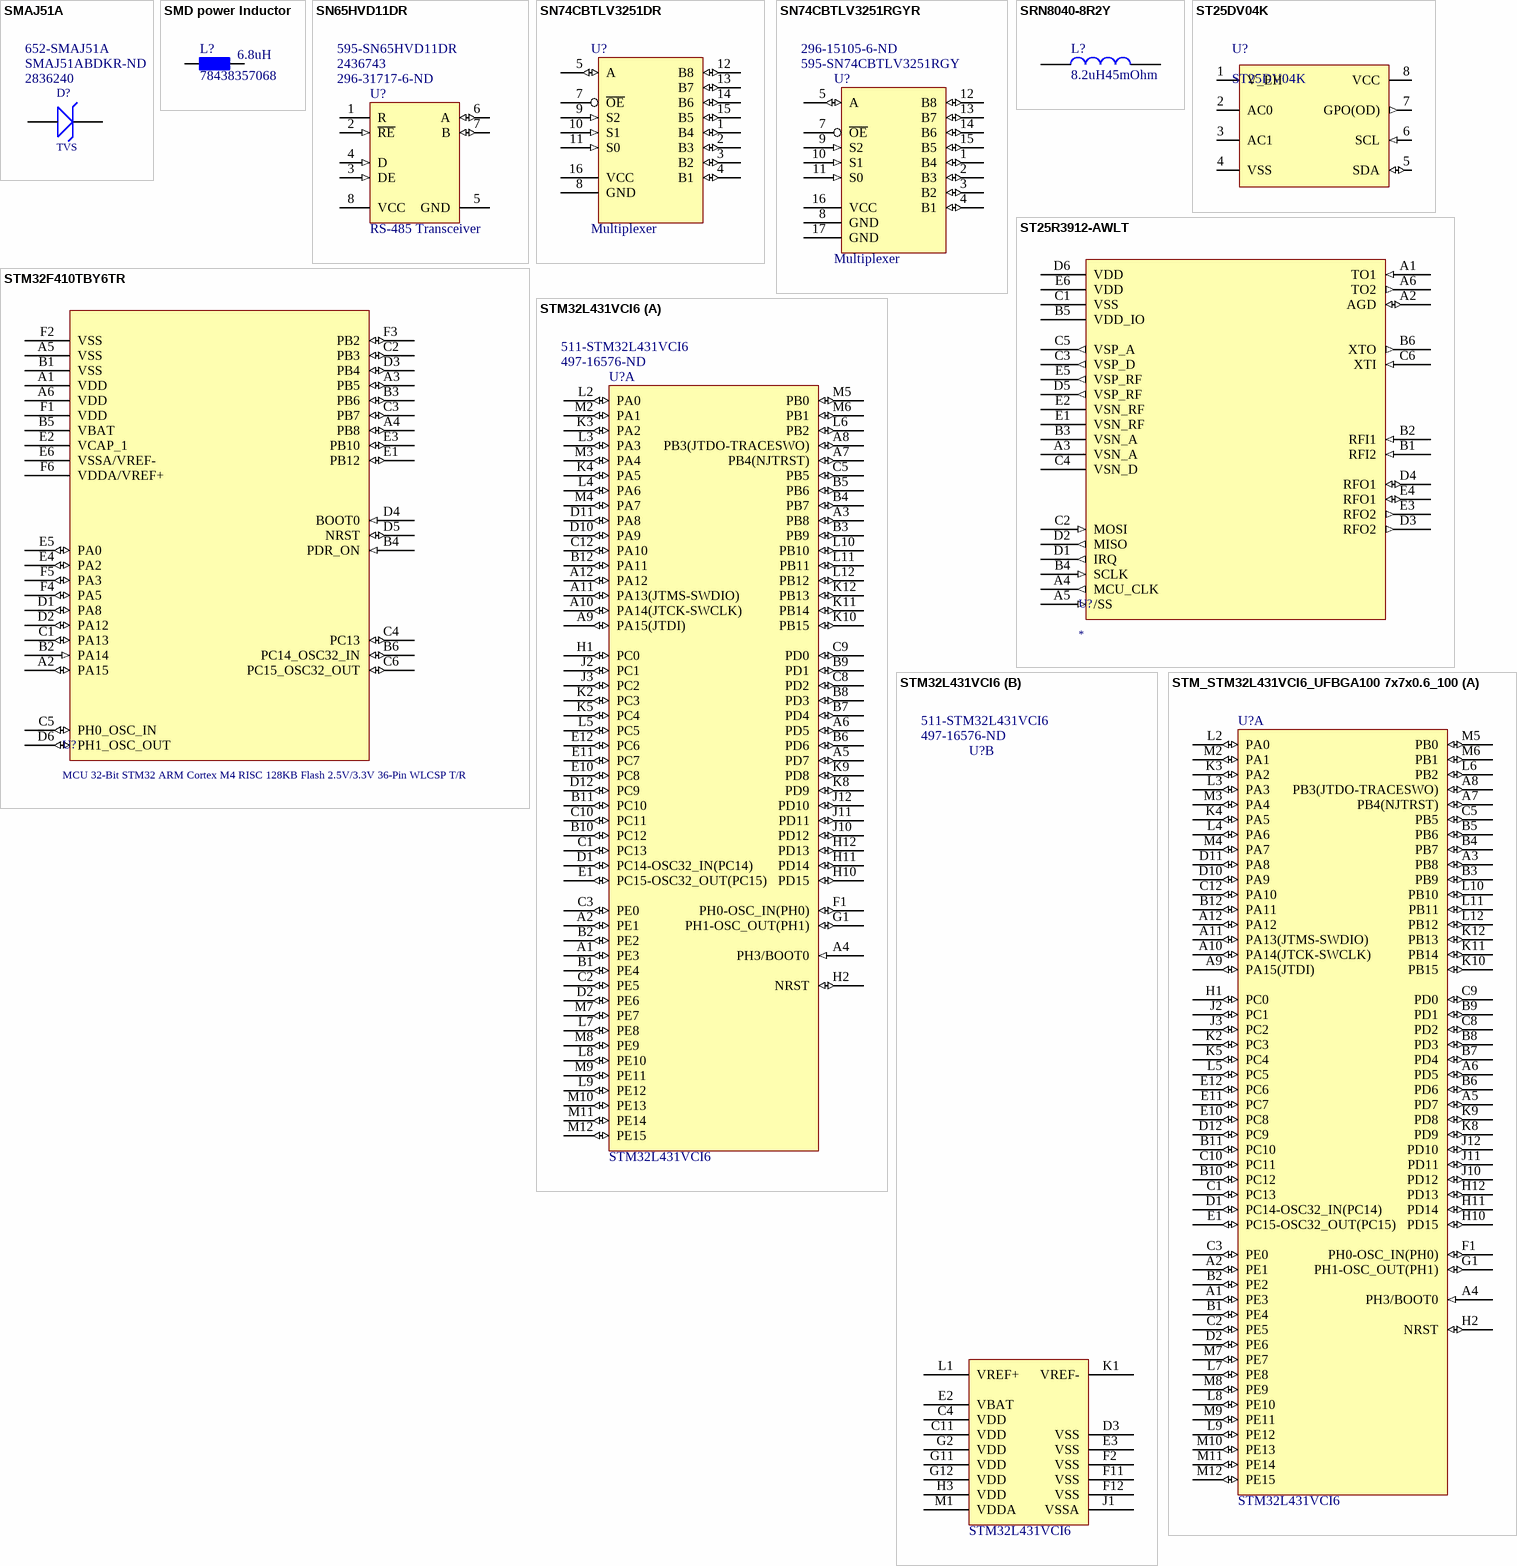
[diagram p4: symbols SMAJ51A to STM_STM32L431VCI6_UFBGA100 7x7x0.6_100]

## SMAJ51A
designator D?, comment TVS  Supplier Part Number 1: 2836240  Supplier Part Number 2: SMAJ51ABDKR-ND  Supplier Part Number 3: 652-SMAJ51A
ESD Suppressors / TVS Diodes 51volts 5uA 4.9 Amps Uni-Dir; Manufacturer: Bourns; Manufacturer PartNr: SMAJ51A; Replaceable: no; ComponentLink1Description: mouser; ComponentLink1URL: https://www.mouser.ch/ProductDetail/Bourns/SMAJ51A?qs=sGAEpiMZZMuGq%2fv7cZsUq75de%2faGaCT9; Footprint/Package: SMA; Supplier 1: Farnell; Supplier 2: Digi-Key; Supplier 3: Mouser
footprint Bourns_DO-214AC (SMA) small_2_R
pins: 1 K, 2 A

## SMD power Inductor
designator L?, comment 78438357068  ShortDescription: 6.8uH
6.8uH, WE-MAIA SMD Power Inductor; Manufacturer: Würth; Manufacturer PartNr: 78438357068
footprint Würth_4030_2_R
footprint Würth_Special Murata LQH5BPN_2_R
pins: 1, 2

## SN65HVD11DR
designator U?, comment RS-485 Transceiver  Supplier Part Number 1: 296-31717-6-ND  Supplier Part Number 2: 2436743  Supplier Part Number 3: 595-SN65HVD11DR
RS-485 Interface IC 3.3V Differential Transceivers; Manufacturer: Texas Instruments; Manufacturer PartNr: SN65HVD11DR; Replaceable: no; ComponentLink1Description: mouser; ComponentLink1URL: https://www.mouser.ch/ProductDetail/Texas-Instruments/SN65HVD11DR?qs=sGAEpiMZZMtk5jbcouIbS2cUqarwnJ3LOIItPoxnG4E%3d; Footprint/Package: SOIC-8; Supplier 1: Digi-Key; Supplier 2: Farnell; Supplier 3: Mouser
footprint TI_D (R-PDSO-G8)_8_R
pins: 1 R (hiz), 2 ~{RE} (in), 3 DE (in), 4 D (in), 5 GND (power), 6 A (io), 7 B (io), 8 VCC (power)

## SN74CBTLV3251DR
designator U?, comment Multiplexer
Multiplexer Switch ICs Sngl-Pole Dbl-Throw Analog Switch; Manufacturer: Texas Instruments; Manufacturer PartNr: SN74CBTLV3251DR; Replaceable: no; ComponentLink1Description: mouser; ComponentLink1URL: https://www.mouser.ch/ProductDetail/Texas-Instruments/SN74CBTLV3251DR?qs=sGAEpiMZZMtxrAS98ir%252bsyyzhQKXP6Bbred42IouBGg%3d; Footprint/Package: SOP-16
footprint SN74CBTLV3251DR (16-SOIC)
pins: 1 B4 (io), 2 B3 (io), 3 B2 (io), 4 B1 (io), 5 A (io), 7 ~{OE}, 8 GND, 9 S2 (in), 10 S1 (in), 11 S0 (in), 12 B8 (io), 13 B7 (io), 14 B6 (io), 15 B5 (io), 16 VCC (power)

## SN74CBTLV3251RGYR
designator U?, comment Multiplexer  Supplier Part Number 1: 595-SN74CBTLV3251RGY  Supplier Part Number 2: 296-15105-6-ND
Multiplexer Switch ICs Sngl-Pole Dbl-Throw Analog Switch; Manufacturer: Texas Instruments; Manufacturer PartNr: SN74CBTLV3251RGYR; Replaceable: no; ComponentLink1Description: mouser; ComponentLink1URL: https://www.mouser.ch/ProductDetail/Texas-Instruments/SN74CBTLV3251RGYR?qs=%2fha2pyFaduj0jkaZeFbDsRaCQjjoxFIhZ%2frFxSESrMpT%252bYmeDnewIw%3d%3d; Footprint/Package: VQFN-16; Supplier 1: Mouser; Supplier 2: Digi-Key
footprint TexasInstruments_16-VFQFN_16_R
footprint TexasInstruments_16-VFQFN_16_R
pins: 1 B4 (io), 2 B3 (io), 3 B2 (io), 4 B1 (io), 5 A (io), 7 ~{OE}, 8 GND, 9 S2 (in), 10 S1 (in), 11 S0 (in), 12 B8 (io), 13 B7 (io), 14 B6 (io), 15 B5 (io), 16 VCC (power), 17 GND

## SRN8040-8R2Y
designator L?, comment 8.2uH45mOhm
Bourns SRN8040 Series Shielded Wire-wound SMD Inductor with a Ferrite Core, 8.2 H 30% 4A Idc; Manufacturer_Part_Number: SRN8040-8R2Y; Geometry.Height: 4mm; Manufacturer_Name: Bourns; RS Part Number: 1729643; RS Price/Stock: http://uk.rs-online.com/web/p/products/1729643; Arrow Part Number: SRN8040-8R2Y; Arrow Price/Stock: https://www.arrow.com/en/products/srn8040-8r2y/bourns; Datasheet Link: https://www.bourns.com/docs/Product-Datasheets/SRN8040.pdf
footprint SRN80408R2Y
pins: 1, 2

## ST25DV04K
designator U?
RFID Transponders 4-Kbit Dynamic NFC/RFID tag with I2C interface and energy harvesting; Manufacturer: STMicroelectronics; Manufacturer PartNr: ST25DV04K-IER8C3; Replaceable: no; value: ST25DV04K-IER8C3; ComponentLink1Description: mouser; ComponentLink1URL: https://www.mouser.ch/ProductDetail/Texas-Instruments/TPS54260DGQR?qs=sGAEpiMZZMvAX9OfPh%252b2NVVXPcZYNNxJ6f9D0IR5ghU%3d; Footprint/Package: UFDFPN-8; Supplier 1: Digi-Key; Supplier Part Number 1: 497-19302-1-ND
footprint ST25DV04_UFDFPN8 (UFDFPN8)
pins: 1 V_EH, 2 AC0, 3 AC1, 4 VSS, 5 SDA (io), 6 SCL (in), 7 GPO(OD) (out), 8 VCC (power)

## ST25R3912-AWLT
designator U?
NFC/RFID Read/Write 30-Pin WLCSP T/R; Package: WFBGA-30; Parameter 1: *
footprint BGA30N40P6X5_274X214X69N (ST25R3912)
pins: A1 TO1 (in), A2 AGD (io), A3 VSN_A (power), A4 MCU_CLK (out), A5 /SS (in), A6 TO2 (out), B1 RFI2 (in), B2 RFI1 (in), B3 VSN_A (power), B4 SCLK (in), B5 VDD_IO (power), B6 XTO (out), C1 VSS (power), C2 MOSI (in), C3 VSP_D (out), C4 VSN_D (power), C5 VSP_A (out), C6 XTI (in), D1 IRQ (out), D2 MISO (out), D3 RFO2 (out), D4 RFO1 (io), D5 VSP_RF (out), D6 VDD (power), E1 VSN_RF (power), E2 VSN_RF (power), E3 RFO2 (out), E4 RFO1 (io), E5 VSP_RF (out), E6 VDD

## STM32F410TBY6TR
designator U?, comment MCU 32-Bit STM32 ARM Cortex M4 RISC 128KB Flash 2.5V/3.3V 36-Pin WLCSP T/R
footprint BGA36N40P6X6_260X270X58N
pins: A1 VDD (power), A2 PA15 (io), A3 PB5 (io), A4 PB8 (io), A5 VSS, A6 VDD (power), B1 VSS (power), B2 PA14 (in), B3 PB6 (io), B4 PDR_ON (in), B5 VBAT (power), B6 PC14_OSC32_IN (io), C1 PA13 (io), C2 PB3 (io), C3 PB7 (io), C4 PC13 (io), C5 PH0_OSC_IN (io), C6 PC15_OSC32_OUT (io), D1 PA8 (io), D2 PA12 (io), D3 PB4 (io), D4 BOOT0 (in), D5 NRST (io), D6 PH1_OSC_OUT (io), E1 PB12 (io), E2 VCAP_1 (power), E3 PB10 (io), E4 PA2 (io), E5 PA0 (io), E6 VSSA/VREF- (power), F1 VDD (power), F2 VSS (power), F3 PB2 (io), F4 PA5 (io), F5 PA3 (io), F6 VDDA/VREF+ (power)